# EAGLE library part LT3510 (library PowerProducts)
LT-Spice library generated with : ltspice.ulp from: E:/Programme/LTC/LTspiceIV/lib/sym/PowerProducts/LT3511*.asy at 05.10.2012 12:29:55
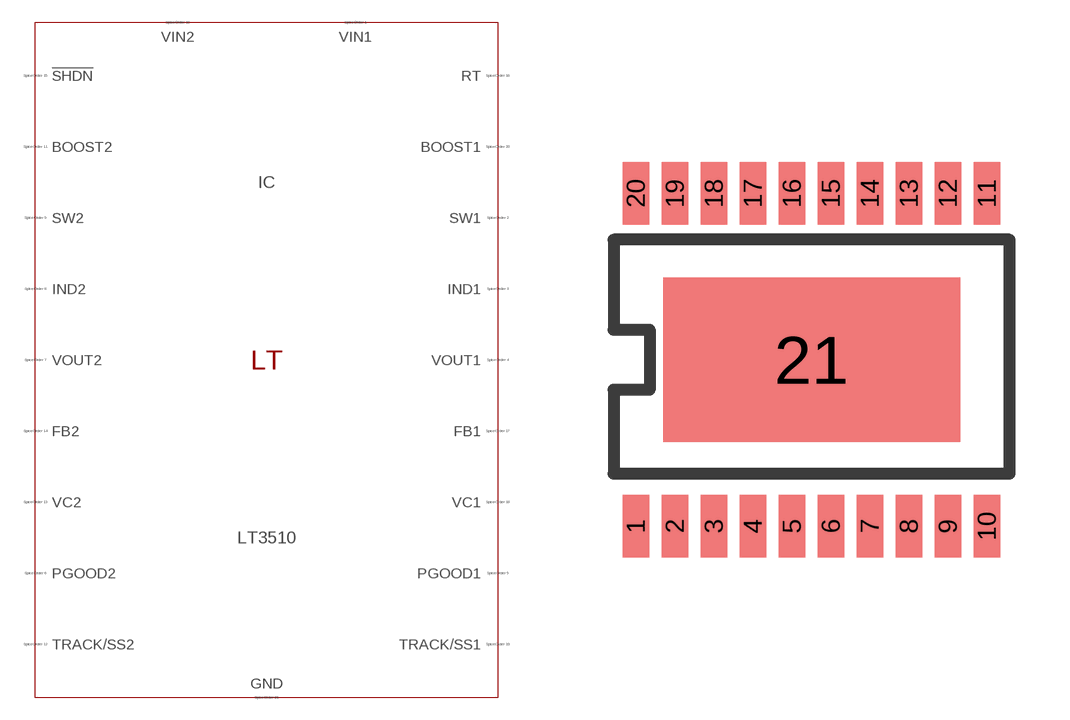
[diagram p69: symbol with the pads of TSSOP20CA(FE); footprint TSSOP20CA(FE)]

Designator prefix IC

## LT3510 (SPICEMODEL: LT3510.sub; SPICEPREFIX: X; VALUE2: LT3510)  [TSSOP20CA(FE)]
1  VIN1  pas
2  SW1  pas
3  IND1  pas
4  VOUT1  pas
5  PGOOD1  pas
6  PGOOD2  pas
7  VOUT2  pas
8  IND2  pas
9  SW2  pas
10  VIN2  pas
11  BOOST2  pas
12  TRACK/SS2  pas
13  VC2  pas
14  FB2  pas
15  !SHDN  pas
16  RT  pas
17  FB1  pas
18  VC1  pas
19  TRACK/SS1  pas
20  BOOST1  pas
21  GND  pas

## Footprint TSSOP20CA(FE) (pad centres in mm)
Package generated from: TSSOP20CA(FE).asc (!PADS-POWERPCB-V5.0-BASIC! DESIGN DATABASE ASCII FILE 1.0) with :import-pads-powerpcb-v5.ulp Version 1.0.1 at 04.10.2012 14:11:40
smd 0.66 x 1.575: 1 -4.388,-4.162; 2 -3.413,-4.162; 3 -2.438,-4.162; 4 -1.462,-4.162; 5 -0.487,-4.162; 6 0.487,-4.162; 7 1.462,-4.162; 8 2.438,-4.162; 9 3.413,-4.162; 10 4.388,-4.162; 11 4.388,4.162; 12 3.413,4.162; 13 2.438,4.162; 14 1.462,4.162; 15 0.487,4.162; 16 -0.487,4.162; 17 -1.462,4.162; 18 -2.438,4.162; 19 -3.413,4.162; 20 -4.388,4.162
smd 7.425 x 4.11: 21 0,0